# Altium schematic symbol library divers.SchLib: 4 symbols
Pins are listed as number, name and electrical type; pins without a type are passive.

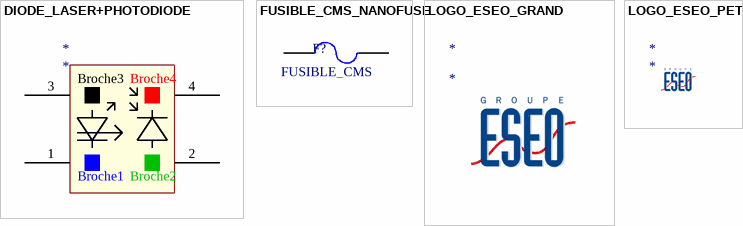
[diagram p0: symbols DIODE_LASER+PHOTODIODE to LOGO_ESEO_PETIT]

## DIODE_LASER+PHOTODIODE
designator *
pins: 1, 2, 3, 4
text: Broche3; Broche4; Broche1; Broche2

## FUSIBLE_CMS_NANOFUSE
designator F?  Type: FUSIBLE_CMS  (hidden comment: FUSIBLE_CMS_NANOFUSE)
FUSIBLE MINIATURE SUR SUPPORT CMS
simulation model FUSE (Spice Subcircuit)
footprint SUPPORT_FUSIBLE_CMS_NANOFUSE (SMF,Omni blok Fuse blok)
pins: 1, 2

## LOGO_ESEO_GRAND
designator *
LOGO ESEO GRAND
footprint LOGO_ESEO_TOP_OVERLAY

## LOGO_ESEO_PETIT
designator *
LOGO ESEO PETIT
footprint LOGO_ESEO_TOP_OVERLAY_PETIT